# EAGLE library part LSM303DTR (library myLib)
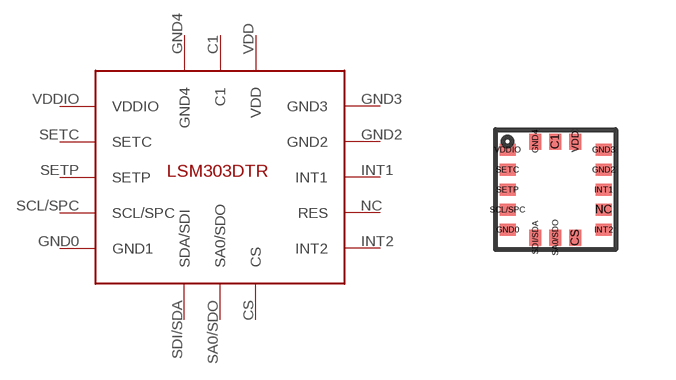
[diagram p7: symbol with the pads of LSM303DTR; footprint LSM303DTR]

Designator prefix -

## LSM303DTR  [LSM303DTR]
C1  C1
CS  CS
GND0  GND1
GND2  GND2
GND3  GND3
GND4  GND4
INT1  INT1
INT2  INT2
NC  RES
SA0/SDO  SA0/SDO
SCL/SPC  SCL/SPC
SDI/SDA  SDA/SDI
SETC  SETC
SETP  SETP
VDD  VDD
VDDIO  VDDIO

## Footprint LSM303DTR (pad centres in mm)
smd 0.3 x 0.4: C1 -0.01,1.2; CS 0.49,-1.2; GND4 -0.51,1.2; SA0/SDO -0.01,-1.2; SDI/SDA -0.51,-1.2; VDD 0.49,1.2
smd 0.4 x 0.3: GND0 -1.2,-1; GND2 1.2,0.5; GND3 1.2,1; INT1 1.2,0; INT2 1.2,-1; NC 1.2,-0.5; SCL/SPC -1.2,-0.5; SETC -1.2,0.5; SETP -1.2,0; VDDIO -1.2,1